# Altium schematic symbol library HydrogreenSchematicLibrary.SchLib: 60 symbols (part 4 of 4)
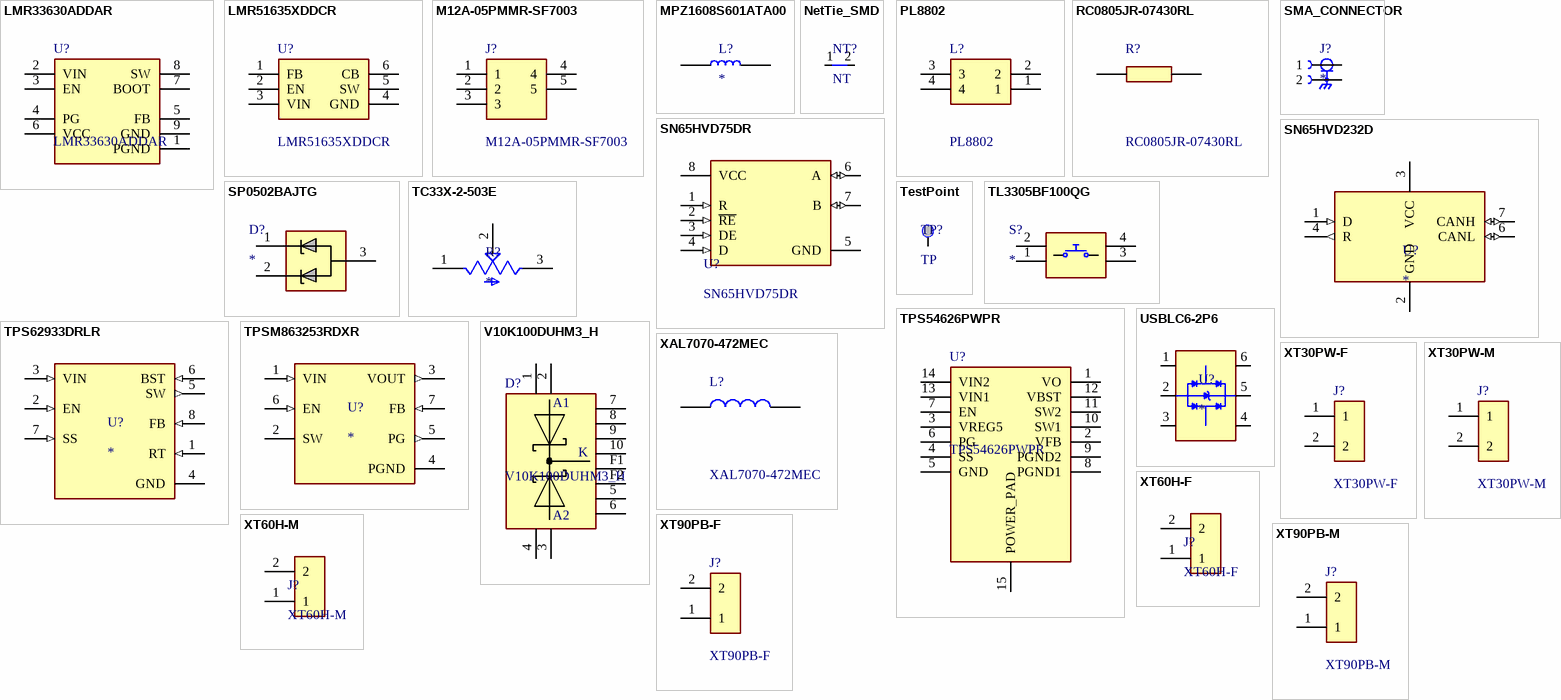
[diagram p4: symbols LMR33630ADDAR to XT90PB-M]

## TPS54626PWPR
designator U?
4.5-V to 18-V, 6.5-A synchronous buck converter with eco-mode in HTSSOP package 14-HTSSOP -40 to 85; Manufacturer_Name: Texas Instruments; Manufacturer Lifecycle Status: ACTIVE; Geometry.Height: 1.2mm; Max Supply Voltage: 18V; Max Junction Temperature (Tj): 150°C; Max Output current: 6.5A; Max Output Voltage: 5.5V; Min Input Voltage: 4.5V; Min Output Voltage: 765mV; Number of Outputs: 1; Output Configuration: Positive; Output Type: Adjustable; Quiescent Current: 950µA; Switching Frequency: 650kHz; Synchronous Rectifier: Yes; Manufacturer_Part_Number: TPS54626PWPR; Mouser Part Number: 595-TPS54626PWPR; Mouser Price/Stock: https://www.mouser.com/Search/Refine.aspx?Keyword=595-TPS54626PWPR; Arrow Part Number: TPS54626PWPR; Arrow Price/Stock: https://www.arrow.com/en/products/tps54626pwpr/texas-instruments; Datasheet Link: http://www.ti.com/lit/gpn/tps54626; Supplier: DigiKey; Supplier Part Number: 296-40807-1-ND; Manufacturer: Texas Instruments; Manufacturer Part Number: TPS54626PWPR; RoHS: Compliant; Category: Voltage Regulators - Switching; Stock: 2008; Pricing: 1=2,62, 10=1,949, 25=1,7824, 100=1,5986, 250=1,511, 500=1,45818, 1000=1,41471 (USD); Case/Package: SOP; Height: 1.2mm; Lead Free: Lead Free; Length: 5mm; Lifecycle Status: Production; Max Operating Temperature: 85°C; Min Operating Temperature: -40°C; Min Supply Voltage: 4.5V; Mounting Technology: Surface Mount; Pins: 14; Operating Supply Voltage: 18V; Output Current: 6.5A; Output Voltage: 5.5V; Packaging: Tape & Reel (TR); Radiation Hardening: No; Schedule B: 8542390000, 8542390000|8542390000|8542390000|8542390000|8542390000; Thickness: 1mm; Topology: Buck; Weight: 240.999296mg; Width: 4.4mm; ComponentLink1URL: https://sigma.octopart.com:443/159569814/technical_drawing/Texas-Instruments-TPS54626PWPR.pdf?src-supplier=Texas+Instruments; ComponentLink1Description: https://sigma.octopart.com:443/159569814/technical_drawing/Texas-Instruments-TPS54626PWPR.pdf?src-supplier=Texas+Instruments; ComponentLink2URL: https://octopart.com:443/opatz8j6/c1?t=junKIVYlBbJDuToYkP2u6iV_naOc3Ho3DaOgm-CZ1UNwzrO6Mwyt4_bqvjuo9VmmQwBrWZSgc4LMoLaqIUkSz1Xp0i9S1rGYecaLkVbwuYCFoHmPHRnGPZOeqL-psw5WJA7ukYFP-z3UDe3vNSZVHaSS5TxmzYc38o1a76CPyg8DfEPdGkibNetDDoh0UPz4M4fSBrk37deijP5Y4U2a4nCx67PN7G5YxWzDYRetJGeVH0J_jhwrCM2X4qBFoA_wruu_NjKBHA4DIZrHf9JZLVDCNqpVByfdRJxT7EWUiLr8Dj5AnH3Xy44ZP455MYbgrmSiHAkyMUWlRSGl12e9NFk8w0cDAeKGDR43UxISDxcxxqmRqcKUGnIReVBdDrWwUstg4jH0&src-supplier=Texas+Instruments; ComponentLink2Description: https://octopart.com:443/opatz8j6/c1?t=junKIVYlBbJDuToYkP2u6iV_naOc3Ho3DaOgm-CZ1UNwzrO6Mwyt4_bqvjuo9VmmQwBrWZSgc4LMoLaqIUkSz1Xp0i9S1rGYecaLkVbwuYCFoHmPHRnGPZOeqL-psw5WJA7ukYFP-z3UDe3vNSZVHaSS5TxmzYc38o1a76CPyg8DfEPdGkibNetDDoh0UPz4M4fSBrk37deijP5Y4U2a4nCx67PN7G5YxWzDYRetJGeVH0J_jhwrCM2X4qBFoA_wruu_NjKBHA4DIZrHf9JZLVDCNqpVByfdRJxT7EWUiLr8Dj5AnH3Xy44ZP455MYbgrmSiHAkyMUWlRSGl12e9NFk8w0cDAeKGDR43UxISDxcxxqmRqcKUGnIReVBdDrWwUstg4jH0&src-supplier=Texas+Instruments; ComponentLink3URL: https://datasheet.octopart.com:443/TPS54626PWPR-Texas-Instruments-datasheet-20674354.pdf?src-supplier=Texas+Instruments; ComponentLink3Description: https://datasheet.octopart.com:443/TPS54626PWPR-Texas-Instruments-datasheet-20674354.pdf?src-supplier=Texas+Instruments; ComponentLink4URL: https://datasheet.octopart.com:443/TPS54626PWPR-Texas-Instruments-datasheet-17275025.pdf?src-supplier=Texas+Instruments; ComponentLink4Description: https://datasheet.octopart.com:443/TPS54626PWPR-Texas-Instruments-datasheet-17275025.pdf?src-supplier=Texas+Instruments; ComponentLink5URL: https://sigma.octopart.com:443/49250594/technical_drawing/Texas-Instruments-TPS54626PWPR.pdf?src-supplier=Texas+Instruments; ComponentLink5Description: https://sigma.octopart.com:443/49250594/technical_drawing/Texas-Instruments-TPS54626PWPR.pdf?src-supplier=Texas+Instruments; ComponentLink6URL: https://datasheet.octopart.com:443/TPS54626PWPR-Texas-Instruments-datasheet-164392911.pdf?src-supplier=LCSC; ComponentLink6Description: https://datasheet.octopart.com:443/TPS54626PWPR-Texas-Instruments-datasheet-164392911.pdf?src-supplier=LCSC; ComponentLink7URL: https://datasheet.octopart.com:443/TPS54626PWPR-Texas-Instruments-datasheet-152588636.pdf?src-supplier=Arrow.cn; ComponentLink7Description: https://datasheet.octopart.com:443/TPS54626PWPR-Texas-Instruments-datasheet-152588636.pdf?src-supplier=Arrow.cn; ComponentLink8URL: https://datasheet.octopart.com:443/TPS54626PWPR-Texas-Instruments-datasheet-137316104.pdf?src-supplier=Future+Electronics; ComponentLink8Description: https://datasheet.octopart.com:443/TPS54626PWPR-Texas-Instruments-datasheet-137316104.pdf?src-supplier=Future+Electronics; ComponentLink9URL: http://sigma.octopart.com:80/reach_statement/Texas-Instruments-company-64.pdf?src-supplier=Compliance+Statements; ComponentLink9Description: http://sigma.octopart.com:80/reach_statement/Texas-Instruments-company-64.pdf?src-supplier=Compliance+Statements; ComponentLink10URL: http://sigma.octopart.com:80/conflict_mineral_statement/Texas-Instruments-company-63.pdf?src-supplier=Compliance+Statements; ComponentLink10Description: http://sigma.octopart.com:80/conflict_mineral_statement/Texas-Instruments-company-63.pdf?src-supplier=Compliance+Statements
footprint TPS54626PWPR
pins: 1 VO, 2 VFB, 3 VREG5, 4 SS, 5 GND, 6 PG, 7 EN, 8 PGND1, 9 PGND2, 10 SW1, 11 SW2, 12 VBST, 13 VIN1, 14 VIN2, 15 POWER_PAD

## TPS62933DRLR
designator U?
3.8-V to 30-V, 3-A, 200-kHz to 2.2-MHz, low-IQ synchronous buck converter in SOT-583 package; MF: Texas Instruments; MP: TPS62933DRLR; SnapEDA_Link: https://www.snapeda.com/parts/TPS62933DRLR/Texas+Instruments/view-part/?ref=snap; Package: SOT-583 Texas Instruments; Value: *; Check_prices: https://www.snapeda.com/parts/TPS62933DRLR/Texas+Instruments/view-part/?ref=eda
footprint TPS62933DRLR
pins: 1 RT (in), 2 EN (in), 3 VIN (in), 4 GND (power), 5 SW (out), 6 BST (in), 7 SS (in), 8 FB (in)

## TPSM863253RDXR
designator U?
3V to 17V input voltage, 3.3V, 3A output synchronous buck module in QFN package 7-QFN-FCMOD -40 to 125; Manufacturer Lifecycle Status: ACTIVE; MF: Texas Instruments; MP: TPSM863253RDXR; SnapEDA_Link: https://www.snapeda.com/parts/TPSM863253RDXR/Texas+Instruments/view-part/?ref=snap; Package: None; Value: *; Check_prices: https://www.snapeda.com/parts/TPSM863253RDXR/Texas+Instruments/view-part/?ref=eda; Supplier: DigiKey; Supplier Part Number: 296-TPSM863253RDXRCT-ND; Manufacturer: Texas Instruments; Manufacturer Part Number: TPSM863253RDXR; RoHS: Compliant; Category: Integrated Circuits (ICs); Stock: 3257; Pricing: 1=2,63, 10=1,96, 25=1,7924, 100=1,6078, 250=1,51976, 500=1,46668, 1000=1,42301 (USD); Height: 0m; Length: 4mm; Lifecycle Status: Production; Pins: 7; Thickness: 2mm; Width: 3.3mm; ComponentLink1URL: https://octopart.com:443/opatz8j6/c1?t=jS2VDNp59x-r3M4UnJwIkxDyXkbjHNSAoP2Fns5-Wk80kLlb-mQ5gVuk8zyi84j77RuBrZF-262aE3noOfDKcDGPEWkV9DoDQewFCLFFRyInceCxvVyAfhTYCYIywjkPWDqBy3YcbHQILjtWA_Eaj3WAHosXV5eHD7vpZYJjVrSO88bXdsuSYdlpSx9vUfFmQgFuFA-HMfKLGSBXL49TLOzJ5T2tngLQpQw-KF5iF-olhgVCegbBT0_kXe8-zNmOJ90ZL3AMoFtxFgWXTiA3kg8TbPVDzmO9NJcakYYdjuReFGLrhU-Lh8uurvImosMTR0LFVg6PaXdiPOKNUC1j5THOrz5of0wHKRbirvbX2rJGgWFTmZxbk0I20_VZT7Zu5rI_wToFdFWt&src-supplier=Texas+Instruments; ComponentLink1Description: https://octopart.com:443/opatz8j6/c1?t=jS2VDNp59x-r3M4UnJwIkxDyXkbjHNSAoP2Fns5-Wk80kLlb-mQ5gVuk8zyi84j77RuBrZF-262aE3noOfDKcDGPEWkV9DoDQewFCLFFRyInceCxvVyAfhTYCYIywjkPWDqBy3YcbHQILjtWA_Eaj3WAHosXV5eHD7vpZYJjVrSO88bXdsuSYdlpSx9vUfFmQgFuFA-HMfKLGSBXL49TLOzJ5T2tngLQpQw-KF5iF-olhgVCegbBT0_kXe8-zNmOJ90ZL3AMoFtxFgWXTiA3kg8TbPVDzmO9NJcakYYdjuReFGLrhU-Lh8uurvImosMTR0LFVg6PaXdiPOKNUC1j5THOrz5of0wHKRbirvbX2rJGgWFTmZxbk0I20_VZT7Zu5rI_wToFdFWt&src-supplier=Texas+Instruments; ComponentLink2URL: https://datasheet.octopart.com:443/TPSM863253RDXR-Texas-Instruments-datasheet-184174687.pdf?src-supplier=LCSC; ComponentLink2Description: https://datasheet.octopart.com:443/TPSM863253RDXR-Texas-Instruments-datasheet-184174687.pdf?src-supplier=LCSC; ComponentLink3URL: http://sigma.octopart.com:80/reach_statement/Texas-Instruments-company-64.pdf?src-supplier=Compliance+Statements; ComponentLink3Description: http://sigma.octopart.com:80/reach_statement/Texas-Instruments-company-64.pdf?src-supplier=Compliance+Statements; ComponentLink4URL: http://sigma.octopart.com:80/conflict_mineral_statement/Texas-Instruments-company-63.pdf?src-supplier=Compliance+Statements; ComponentLink4Description: http://sigma.octopart.com:80/conflict_mineral_statement/Texas-Instruments-company-63.pdf?src-supplier=Compliance+Statements
footprint TPSM863253RDXR
pins: 1 VIN (in), 2 SW, 3 VOUT (out), 4 PGND (power), 5 PG (out), 6 EN (in), 7 FB (in)

## USBLC6-2P6
designator U?
USBLC6 Series 2 Channel 5.25 V SMT Uni-Directional ±15 kV ESD Protection-SOT-666; MF: STMicroelectronics; MP: USBLC6-2P6; Breakdown Voltage: 6V; Clamping Voltage: 17V; Direction: Unidirectional; Element Configuration: Dual; ESD Protection: Yes; Leakage Current: 150nA; Max Junction Temperature (Tj): 125°C; Max Repetitive Reverse Voltage (Vrrm): 5.25V; Number of Bidirectional Channels: 2; Number of Elements: 1; Peak Pulse Current: 5A; Reverse Standoff Voltage: 5V; Test Current: 1mA; SnapEDA_Link: https://www.snapeda.com/parts/USBLC6-2P6/STMicroelectronics/view-part/?ref=snap; Package: SOT-666 STMicroelectronics; Value: *; Check_prices: https://www.snapeda.com/parts/USBLC6-2P6/STMicroelectronics/view-part/?ref=eda; Supplier: RS; Supplier Part Number: 6247687P; Manufacturer: STMicroelectronics; Manufacturer Part Number: USBLC6-2P6; RoHS: Compliant; Category: TVS Diodes; Stock: 20310; Case/Package: SOT-666; China RoHS: Compliant; Contact Plating: Tin; Depth: 1.3mm; Height: 600µm; Lead Free: Lead Free; Length: 1.7mm; Lifecycle Status: Production; Max Breakdown Voltage: 6V; Max Operating Temperature: 125°C; Max Reverse Leakage Current: 150nA; Min Breakdown Voltage: 6V; Min Operating Temperature: -40°C; Mounting Technology: Surface Mount; Number of Channels: 2; Pins: 6; Number of Terminals: 6; Polarity: Unidirectional; Power Line Protection: Yes; Radiation Hardening: No; REACH SVHC: Yes; Reverse Breakdown Voltage: 6V; Schedule B: 8536300000, 8536300000|8536300000|8536300000|8536300000|8536300000; Termination: SMD/SMT; Width: 1.3mm; Working Voltage: 5V; ComponentLink1URL: https://datasheet.octopart.com:443/USBLC6-2P6-STMicroelectronics-datasheet-10412581.pdf?src-supplier=element14+APAC; ComponentLink1Description: https://datasheet.octopart.com:443/USBLC6-2P6-STMicroelectronics-datasheet-10412581.pdf?src-supplier=element14+APAC; ComponentLink2URL: https://datasheet.octopart.com:443/USBLC6-2P6-STMicroelectronics-datasheet-525477.pdf?src-supplier=Factory+Futures; ComponentLink2Description: https://datasheet.octopart.com:443/USBLC6-2P6-STMicroelectronics-datasheet-525477.pdf?src-supplier=Factory+Futures; ComponentLink3URL: https://datasheet.octopart.com:443/USBLC6-2P6-STMicroelectronics-datasheet-181961833.pdf?src-supplier=Newark; ComponentLink3Description: https://datasheet.octopart.com:443/USBLC6-2P6-STMicroelectronics-datasheet-181961833.pdf?src-supplier=Newark; ComponentLink4URL: https://datasheet.octopart.com:443/USBLC6-2P6-STMicroelectronics-datasheet-46285.pdf?src-supplier=Farnell; ComponentLink4Description: https://datasheet.octopart.com:443/USBLC6-2P6-STMicroelectronics-datasheet-46285.pdf?src-supplier=Farnell; ComponentLink5URL: https://datasheet.octopart.com:443/USBLC6-2P6-STMicroelectronics-datasheet-14050643.pdf?src-supplier=iiiC; ComponentLink5Description: https://datasheet.octopart.com:443/USBLC6-2P6-STMicroelectronics-datasheet-14050643.pdf?src-supplier=iiiC; ComponentLink6URL: https://datasheet.octopart.com:443/USBLC6-2P6-STMicroelectronics-datasheet-7828165.pdf?src-supplier=Jameco; ComponentLink6Description: https://datasheet.octopart.com:443/USBLC6-2P6-STMicroelectronics-datasheet-7828165.pdf?src-supplier=Jameco
footprint SOT50P160X60-6N
pins: 1 I/O1_1 (io), 2 GND (power), 3 I/O2_1 (io), 4 I/O2_2 (io), 5 VBUS (power), 6 I/O1_2 (io)

## V10K100DUHM3_H
designator D?
Schottky Diodes & Rectifiers 10A 100V TMBS FlatPAK 5x6; Manufacturer_Name: Vishay; Manufacturer_Part_Number: V10K100DUHM3/H; Geometry.Height: 1.09mm; Mouser Part Number: 78-V10K100DUHM3/H; Mouser Price/Stock: https://www.mouser.co.uk/ProductDetail/Vishay-General-Semiconductor/V10K100DUHM3-H/?qs=u16ybLDytRayB9owesg4qQ%3D%3D; Arrow Part Number: *; Arrow Price/Stock: *; Datasheet Link: https://www.farnell.com/datasheets/2721061.pdf
footprint V10K100DUHM3H
pins: 1, 2, 3, 4, 5, 6, 7, 8, 9, 10, F1, F2
text: A1; K; A2

## XAL7070-472MEC
designator L?
General Purpose Inductor, 4.7uH, 20%, 1 Element, Composite-Core, SMD, 3028; Manufacturer_Name: COILCRAFT; Geometry.Height: 7mm; DC Resistance (DCR): 14.26mΩ; Value: 4.7µH; Max Current Rating: 13.6A; Number of Circuits: 1; Saturation Current: 15.2A; Self Resonant Frequency: 26MHz; Shielding: Yes; Test Frequency: 1MHz; Mouser Part Number: 994-XAL7070-472MEC; Mouser Price/Stock: https://www.mouser.co.uk/ProductDetail/Coilcraft/XAL7070-472MEC?qs=zCSbvcPd3pZar3i%2F4%252BSjWg%3D%3D; Manufacturer_Part_Number: XAL7070-472MEC; Datasheet Link: https://www.coilcraft.com/pdfs/xal7070.pdf; Supplier: Farnell; Supplier Part Number: 2289129; Manufacturer: Coilcraft; Manufacturer Part Number: XAL7070-472MEC; RoHS: Compliant; Category: Fixed Inductors; Stock: 742; Ambient Temperature Range High: 125°C; Case/Package: SMD/SMT; Core Material: Composite; Height: 7mm; Inductance Tolerance: 20%; Lead Free: Contains Lead; Length: 8mm; Lifecycle Status: Production; Max DC Current: 13.6A; Max Operating Temperature: 125°C; Min Operating Temperature: -40°C; Mounting Technology: Surface Mount; Number of Terminals: 2; Packaging: Cut Tape; REACH SVHC: Yes; RMS Current (Irms): 13.6A; ESR: 14.26mΩ; Termination: SMD/SMT; Tolerance: 20%; Width: 7.2mm; ComponentLink1URL: https://datasheet.octopart.com:443/XAL7070-472MEC-Coilcraft-datasheet-180122068.pdf?src-supplier=IHS; ComponentLink1Description: https://datasheet.octopart.com:443/XAL7070-472MEC-Coilcraft-datasheet-180122068.pdf?src-supplier=IHS; ComponentLink2URL: https://datasheet.octopart.com:443/XAL7070-472MEC-Coilcraft-datasheet-10791984.pdf?src-supplier=Coilcraft+Direct; ComponentLink2Description: https://datasheet.octopart.com:443/XAL7070-472MEC-Coilcraft-datasheet-10791984.pdf?src-supplier=Coilcraft+Direct; ComponentLink3URL: https://datasheet.octopart.com:443/XAL7070-472MEC-Coilcraft-datasheet-181955335.pdf?src-supplier=Newark; ComponentLink3Description: https://datasheet.octopart.com:443/XAL7070-472MEC-Coilcraft-datasheet-181955335.pdf?src-supplier=Newark; ComponentLink4URL: https://datasheet.octopart.com:443/XAL7070-472MEC-Coilcraft-datasheet-14354386.pdf?src-supplier=Newark; ComponentLink4Description: https://datasheet.octopart.com:443/XAL7070-472MEC-Coilcraft-datasheet-14354386.pdf?src-supplier=Newark
footprint XAL7070472MEC
pins: 1, 2

## XT30PW-F
designator J?
Socket; DC supply; XT30; female; PIN:2; on PCBs; THT; Colour: yellow; Manufacturer_Name: Amass; Geometry.Height: 5mm; Manufacturer_Part_Number: XT30PW-F; Mouser Part Number: *; Mouser Price/Stock: *; Arrow Part Number: *; Arrow Price/Stock: *; Datasheet Link: https://www.tme.eu/Document/ce4077e36b79046da520ca73227e15de/XT30PW%20SPEC.pdf
footprint XT30PWF
pins: 1, 2

## XT30PW-M
designator J?
Plug; XT30; Male; 30A; Low Temperature Rise Fire Retardant; Manufacturer_Name: Amass; Geometry.Height: 5mm; Manufacturer_Part_Number: XT30PW-M; Mouser Part Number: *; Mouser Price/Stock: *; Arrow Part Number: *; Arrow Price/Stock: *; Datasheet Link: https://www.tme.eu/sl/Document/ce4077e36b79046da520ca73227e15de/XT30PW%20SPEC.pdf; ComponentLink1URL: https://datasheet.octopart.com/XT30PW-M-Amass-datasheet-165556440.pdf?src-supplier=TME; ComponentLink1Description: https://datasheet.octopart.com/XT30PW-M-Amass-datasheet-165556440.pdf?src-supplier=TME
footprint XT30PWM
pins: 1, 2

## XT60H-F
designator J?
Socket; DC supply; XT60; Female; PIN: 2
footprint XT60H-F
pins: 1, 2

## XT60H-M
designator J?
Socket; DC supply; XT60; Male; PIN: 2
footprint XT60H-M
pins: 1, 2

## XT90PB-F
designator J?
Connector: DC supply; socket; XT90; female; PIN: 2; on PCBs; THT; Manufacturer_Name: Amass; Geometry.Height: 19.7mm; Manufacturer_Part_Number: XT90PB-F; Mouser Part Number: *; Mouser Price/Stock: *; Arrow Part Number: *; Arrow Price/Stock: *; Datasheet Link: https://www.china-amass.com/biao/439.html; ComponentLink1Description: Octopart:; ComponentLink1URL: https://octopart.com/xt90pb-f-amass-118051300
footprint XT90PB-F
pins: 1, 2

## XT90PB-M
designator J?
Socket; DC supply; XT90; male; PIN: 2; on PCBs; THT; yellow; 40A; 500V; Manufacturer_Name: Amass; Geometry.Height: 19.7mm; Manufacturer_Part_Number: XT90PB-M; Mouser Part Number: *; Mouser Price/Stock: *; Arrow Part Number: *; Arrow Price/Stock: *; Datasheet Link: https://www.china-amass.com/biao/439.html; ComponentLink1Description: Octopart:; ComponentLink1URL: https://octopart.com/xt90pb-m-amass-118051301
footprint XT90PB-M
pins: 1, 2